# Altium schematic symbol library FiltrosGyrator.SCHLIB: 6 symbols
Pins are listed as number, name and electrical type; pins without a type are passive.

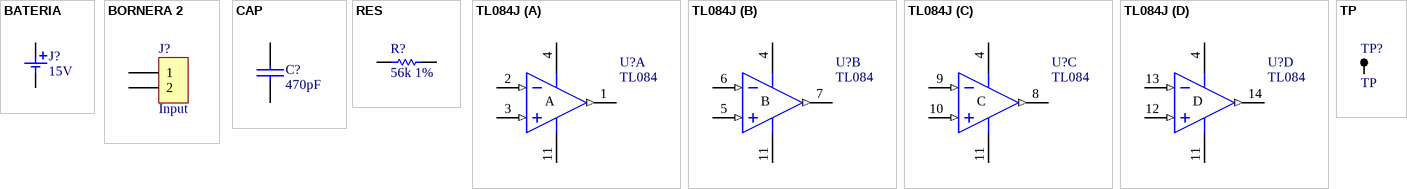
[diagram p0: symbols BATERIA to TP]

## BATERIA
designator J?, comment 15V
BATERIA; Value: BORNERA2; Footprint: BORNERA2
footprint BORNERA2 (Bornera con Tornillos 5mm separación)
pins: 1, 2

## BORNERA 2
designator J?, comment Input
Value: BORNERA2; Footprint: BORNERA2
footprint BORNERA2 (Bornera con Tornillos 5mm separación)
pins: 1, 2

## CAP
designator C?, comment 470pF
Footprint: 0805; Value: 470pF
footprint 0805 (Pasivo 0805)
footprint 1206 (Pasivo 1206)
footprint 0603 (Footprint not found)
footprint CAP200
footprint CAP100
pins: 1, 2

## RES
designator R?, comment 56k 1%
Value: 56k 1%; Footprint: 0805
footprint 0805 (Chip Resistor, 2-Leads, Body 0,8"x0,5" - 2,0x1,3mm, IPC High Density)
footprint RES400
footprint RES100
footprint RES300
footprint 1206 (Pasivo 1206)
footprint RES500
footprint RES600
footprint RES1200
pins: 1, 2

## TL084J
designator U?, comment TL084
JFET-Input Operational Amplifier; Published: 16-Jan-2001; LatestRevisionDate: 04-Mar-2005; LatestRevisionNote: Stylized 3D Model Added.; DatasheetVersion: Feb-1999; PackageVersion: Jun-1999; PackageReference: J014; Publisher: Altium Limited; PackageDescription: DIP; 14 Leads; Row Spacing 7.62 mm; Pitch 2.54 mm; ComponentLink1Description: Manufacturer Link; ComponentLink1URL: http://www.ti.com/; ComponentLink2Description: Datasheet; ComponentLink2URL: http://www-s.ti.com/sc/ds/tl084.pdf
footprint J014 (DIP; 14 Leads; Row Spacing 7.62 mm; Pitch 2.54 mm)
3D model J014 (DIP; 14 Leads; Row Spacing 7.62 mm; Pitch 2.54 mm)
simulation model TL084 (SUBCKT)
pins on every part: 4 V+ (power), 11 V- (power)
part A pins: 1 OUT (out), 2 IN- (in), 3 IN+ (in)
part B pins: 5 IN+ (in), 6 IN- (in), 7 OUT (out)
part C pins: 8 OUT (out), 9 IN- (in), 10 IN+ (in)
part D pins: 12 IN+ (in), 13 IN- (in), 14 OUT (out)
part A text: A
part B text: B
part C text: C
part D text: D

## TP
designator TP?
footprint TPSMD
footprint TPTH
pins: 1